# Altium footprint library PH_HEADER_6_WAY.PcbLib: 1 footprints
Each footprint in its own frame and in the unit in brackets; x right, y up, seen from the top. Pads: shape width x height; smd on the part's side, far side on the other; paste and mask are expansions set on the pad; w line width, h text height; cw(c..) or ccw(c..) is an arc to the next point about the centre after c.
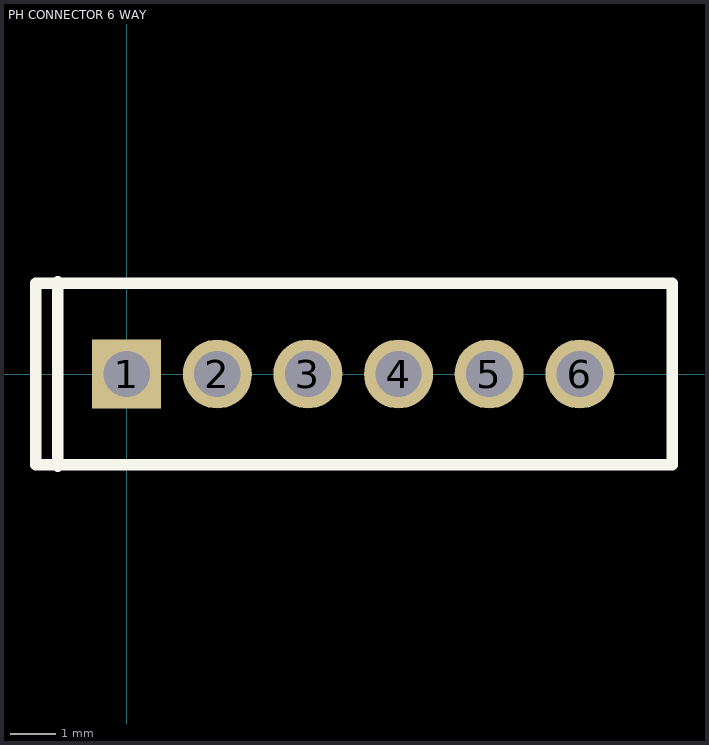
[diagram p0: the footprint, top view; thin cyan lines are the x and y axes]

## PH CONNECTOR 6 WAY [mil] "PH CONNECTOR 6 WAY"
pads (6):
  rect 60x60 hole 40.16: 1(0,0)
  round 60 hole 40.16: 2(78.74,0) 3(157.48,0) 4(236.22,0) 5(314.96,0) 6(393.7,0)
Top Overlay:
  lines w10: -60,-80 -60,80 ; -79,-79 -79,79 395,79 474,79 474,-79 -79,-79